# Altium footprint library ICs.PcbLib: 16 footprints
Each footprint in its own frame and in the unit in brackets; x right, y up, seen from the top. Pads: shape width x height; smd on the part's side, far side on the other; paste and mask are expansions set on the pad; w line width, h text height; cw(c..) or ccw(c..) is an arc to the next point about the centre after c.
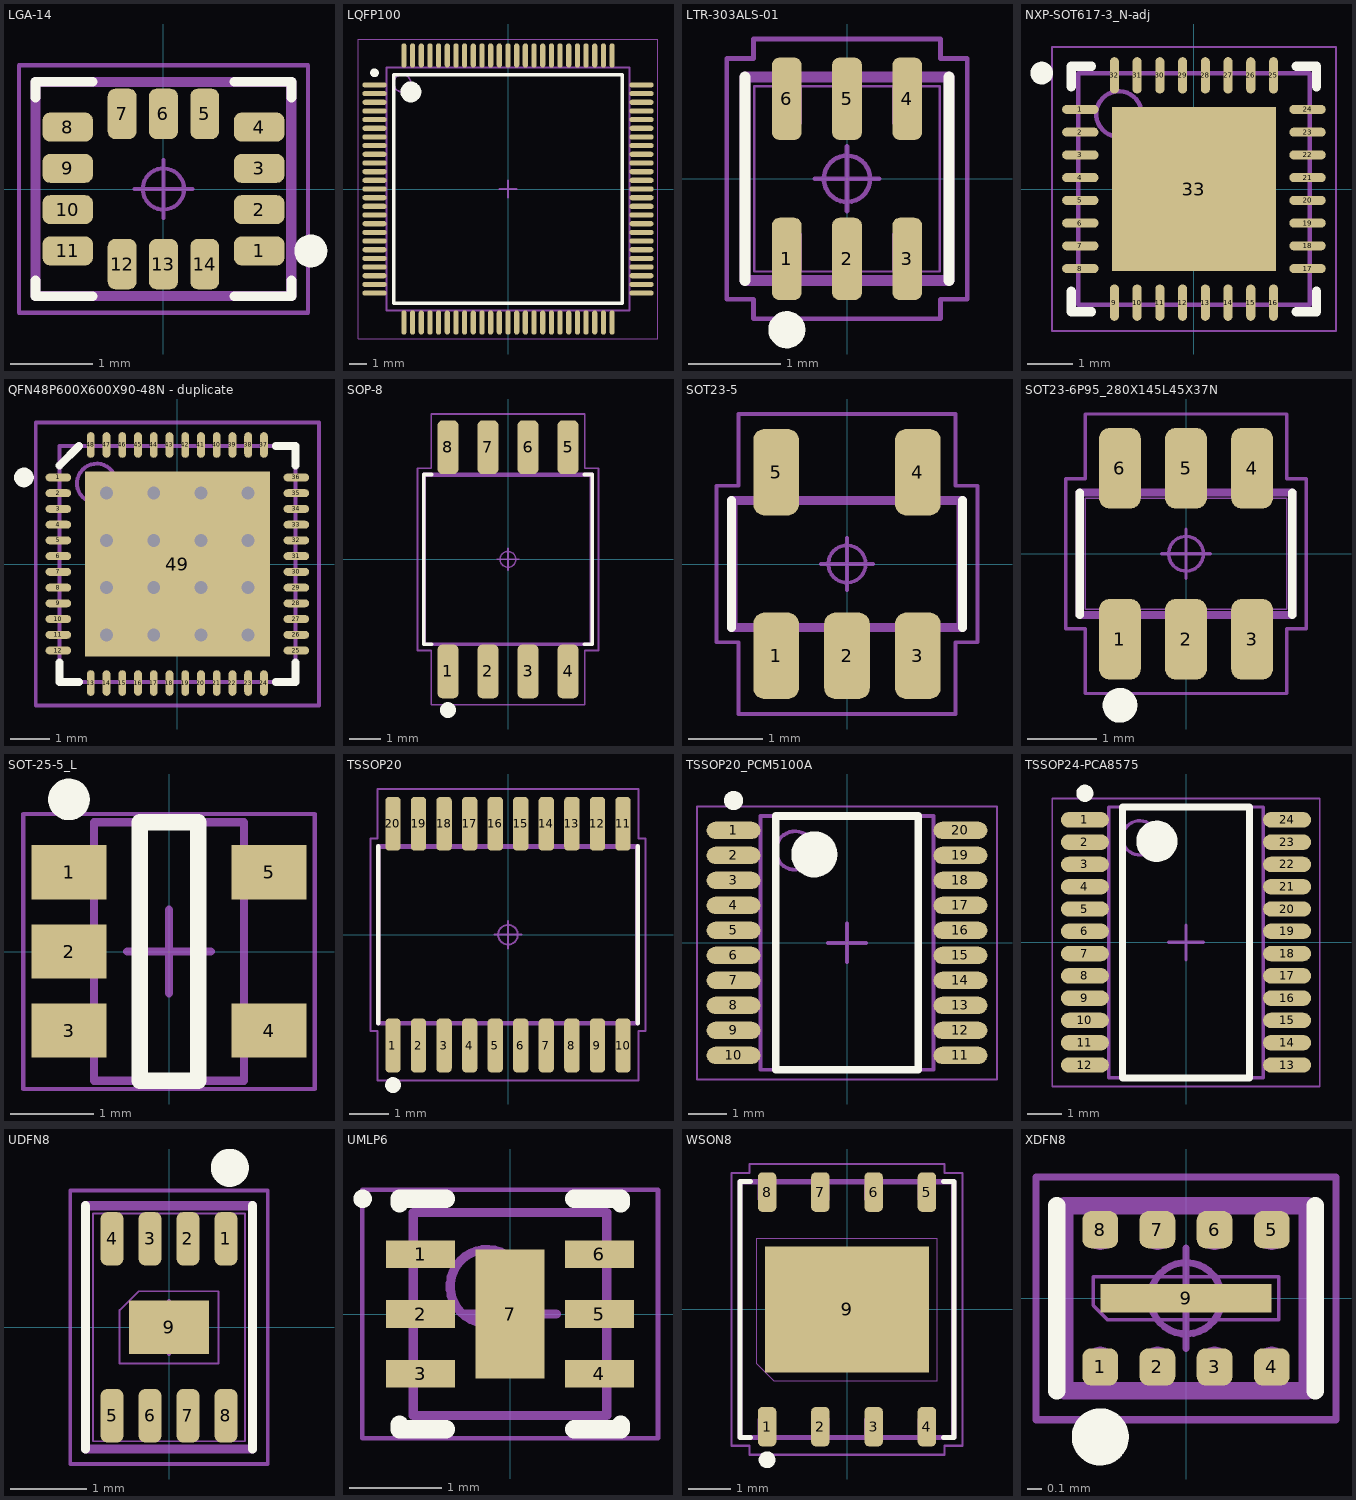
[diagram p0: the footprints below, top view; thin cyan lines are the x and y axes]

## LGA-14 [mm]
height 0.86
pads (14):
  rrect51% 0.61x0.35 smd: 1(1.16,-0.75) 2(1.16,-0.25) 3(1.16,0.25) 4(1.16,0.75) 8(-1.16,0.75) 9(-1.16,0.25) 10(-1.16,-0.25) 11(-1.16,-0.75)
  rrect51% 0.35x0.61 smd: 5(0.5,0.91) 6(0,0.91) 7(-0.5,0.91) 12(-0.5,-0.91) 13(0,-0.91) 14(0.5,-0.91)
Top Overlay:
  circle w0.2: c1.785,-0.75 r0.1
  lines w0.12: -1.55,-1.11 -1.55,-1.3 -0.86,-1.3 ; -1.55,1.11 -1.55,1.3 -0.86,1.3 ; 0.86,-1.3 1.55,-1.3 1.55,-1.11 ; 0.86,1.3 1.55,1.3 1.55,1.11
Assembly Top:
  lines w0.12: -1.55,-1.3 -1.55,1.3 1.55,1.3 1.55,-1.3 -1.55,-1.3
3D Top:
  lines w0.025: -1.5,-1.25 -1.5,1.25 1.5,1.25 1.5,-1.25 -1.5,-1.25 ; -1.4,-0.875 -0.95,-0.875 -0.95,-0.625 -1.4,-0.625 -1.4,-0.875 ; -1.4,-0.375 -0.95,-0.375 -0.95,-0.125 -1.4,-0.125 -1.4,-0.375 ; -1.4,0.125 -0.95,0.125 -0.95,0.375 -1.4,0.375 -1.4,0.125 ; -1.4,0.625 -0.95,0.625 -0.95,0.875 -1.4,0.875 -1.4,0.625 ; -0.625,-1.15 -0.375,-1.15 -0.375,-0.7 -0.625,-0.7 -0.625,-1.15 ; -0.625,0.7 -0.375,0.7 -0.375,1.15 -0.625,1.15 -0.625,0.7 ; -0.125,-1.15 0.125,-1.15 0.125,-0.7 -0.125,-0.7 -0.125,-1.15 ; -0.125,0.7 0.125,0.7 0.125,1.15 -0.125,1.15 -0.125,0.7 ; 0.375,-1.15 0.625,-1.15 0.625,-0.7 0.375,-0.7 0.375,-1.15 ; 0.375,0.7 0.625,0.7 0.625,1.15 0.375,1.15 0.375,0.7 ; 0.95,-0.875 0.95,-0.625 1.4,-0.625 1.4,-0.875 0.95,-0.875 ; 0.95,-0.375 0.95,-0.125 1.4,-0.125 1.4,-0.375 0.95,-0.375 ; 0.95,0.125 0.95,0.375 1.4,0.375 1.4,0.125 0.95,0.125 ; 0.95,0.625 0.95,0.875 1.4,0.875 1.4,0.625 0.95,0.625
Courtyard Top:
  circle w0.05: c0,0 r0.25
  lines w0.05: -0.35,0 0.35,0 ; 0,-0.35 0,0.35 ; -1.75,-1.5 -1.75,1.5 1.75,1.5 1.75,-1.5 -1.75,-1.5
3D body: height 0.86, standoff 0, extent -1.5,-1.25 1.5,1.25

## LQFP100 [mm] "Low profile quad flat package; 100 terminals; 0.5 mm pitch; 14 mm x 14 mm x 1.7 mm body"
height 1.7
pads (100):
  oval 1.4x0.3 smd: 1(-7.7,6) 2(-7.7,5.5) 3(-7.7,5) 4(-7.7,4.5) 5(-7.7,4) 6(-7.7,3.5) 7(-7.7,3) 8(-7.7,2.5) 9(-7.7,2) 10(-7.7,1.5) 11(-7.7,1) 12(-7.7,0.5) 13(-7.7,0) 14(-7.7,-0.5) 15(-7.7,-1) 16(-7.7,-1.5) 17(-7.7,-2) 18(-7.7,-2.5) 19(-7.7,-3) 20(-7.7,-3.5) 21(-7.7,-4) 22(-7.7,-4.5) 23(-7.7,-5) 24(-7.7,-5.5) 25(-7.7,-6) 51(7.7,-6) 52(7.7,-5.5) 53(7.7,-5) 54(7.7,-4.5) 55(7.7,-4) 56(7.7,-3.5) 57(7.7,-3) 58(7.7,-2.5) 59(7.7,-2) 60(7.7,-1.5) 61(7.7,-1) 62(7.7,-0.5) 63(7.7,0) 64(7.7,0.5) 65(7.7,1) 66(7.7,1.5) 67(7.7,2) 68(7.7,2.5) 69(7.7,3) 70(7.7,3.5) 71(7.7,4) 72(7.7,4.5) 73(7.7,5) 74(7.7,5.5) 75(7.7,6)
  oval 0.3x1.4 smd: 26(-6,-7.7) 27(-5.5,-7.7) 28(-5,-7.7) 29(-4.5,-7.7) 30(-4,-7.7) 31(-3.5,-7.7) 32(-3,-7.7) 33(-2.5,-7.7) 34(-2,-7.7) 35(-1.5,-7.7) 36(-1,-7.7) 37(-0.5,-7.7) 38(0,-7.7) 39(0.5,-7.7) 40(1,-7.7) 41(1.5,-7.7) 42(2,-7.7) 43(2.5,-7.7) 44(3,-7.7) 45(3.5,-7.7) 46(4,-7.7) 47(4.5,-7.7) 48(5,-7.7) 49(5.5,-7.7) 50(6,-7.7) 76(6,7.7) 77(5.5,7.7) 78(5,7.7) 79(4.5,7.7) 80(4,7.7) 81(3.5,7.7) 82(3,7.7) 83(2.5,7.7) 84(2,7.7) 85(1.5,7.7) 86(1,7.7) 87(0.5,7.7) 88(0,7.7) 89(-0.5,7.7) 90(-1,7.7) 91(-1.5,7.7) 92(-2,7.7) 93(-2.5,7.7) 94(-3,7.7) 95(-3.5,7.7) 96(-4,7.7) 97(-4.5,7.7) 98(-5,7.7) 99(-5.5,7.7) 100(-6,7.7)
Top Overlay:
  circle w0.6: c-5.6,5.6 r0.3
  circle w0.25: c-7.7,6.7 r0.125
  lines w0.2: -6.6,-6.6 6.6,-6.6 6.6,6.6 -6.6,6.6 -6.6,-6.6
3D Top:
  circle w0.1: c-6.1,6.1 r0.5
  lines w0.1: -7,-7 7,-7 7,7 -7,7 -7,-7
Courtyard Top:
  lines w0.05: -8.65,-8.65 8.65,-8.65 8.65,8.65 -8.65,8.65 -8.65,-8.65
  lines w0.1: -0.5,0 0.5,0 ; 0,-0.5 0,0.5
3D body: height 1.7, standoff 0, extent -8,-8 8,8

## LTR-303ALS-01 [mm]
height 0.9
pads (6):
  rrect50% 0.32x0.89 smd: 1(-0.65,-0.865) 2(0,-0.865) 3(0.65,-0.865) 4(0.65,0.865) 5(0,0.865) 6(-0.65,0.865)
Top Overlay:
  circle w0.2: c-0.65,-1.63 r0.1
  lines w0.12: -1.1,-1.1 -1.1,1.1 ; 1.1,-1.1 1.1,1.1
Assembly Top:
  lines w0.12: -1.1,-1.1 -1.1,1.1 1.1,1.1 1.1,-1.1 -1.1,-1.1
3D Top:
  lines w0.025: -1,-1 -1,1 1,1 1,-1 -1,-1 ; -0.8,-1 -0.5,-1 -0.5,-0.6 -0.8,-0.6 -0.8,-1 ; -0.8,0.6 -0.5,0.6 -0.5,1 -0.8,1 -0.8,0.6 ; -0.15,-1 0.15,-1 0.15,-0.6 -0.15,-0.6 -0.15,-1 ; -0.15,0.6 0.15,0.6 0.15,1 -0.15,1 -0.15,0.6 ; 0.5,-1 0.8,-1 0.8,-0.6 0.5,-0.6 0.5,-1 ; 0.5,0.6 0.8,0.6 0.8,1 0.5,1 0.5,0.6
Courtyard Top:
  circle w0.05: c0,0 r0.25
  lines w0.05: -0.35,0 0.35,0 ; 0,-0.35 0,0.35 ; -1.3,-1.3 -1.3,1.3 -1.01,1.3 -1.01,1.51 1.01,1.51 1.01,1.3 1.3,1.3 1.3,-1.3 1.01,-1.3 1.01,-1.51 -1.01,-1.51 -1.01,-1.3 -1.3,-1.3
3D body: height 0.9, standoff 0, extent -1,-1.05 1,1.05

## NXP-SOT617-3_N-adj [mm] "QFN, 32-Leads, Body 5x5mm, Pitch 0.5mm, Thermal Pad 3.6x3.6mm, IPC Medium Density"
height 0.85
pads (33):
  oval 0.8x0.2 smd: 1(-2.5,1.75) 2(-2.5,1.25) 3(-2.5,0.75) 4(-2.5,0.25) 5(-2.5,-0.25) 6(-2.5,-0.75) 7(-2.5,-1.25) 8(-2.5,-1.75) 17(2.5,-1.75) 18(2.5,-1.25) 19(2.5,-0.75) 20(2.5,-0.25) 21(2.5,0.25) 22(2.5,0.75) 23(2.5,1.25) 24(2.5,1.75)
  oval 0.2x0.8 smd: 9(-1.75,-2.5) 10(-1.25,-2.5) 11(-0.75,-2.5) 12(-0.25,-2.5) 13(0.25,-2.5) 14(0.75,-2.5) 15(1.25,-2.5) 16(1.75,-2.5) 25(1.75,2.5) 26(1.25,2.5) 27(0.75,2.5) 28(0.25,2.5) 29(-0.25,2.5) 30(-0.75,2.5) 31(-1.25,2.5) 32(-1.75,2.5)
  rect 3.6x3.6 smd: 33(0,0)
Top Overlay:
  circle w0.25: c-3.35,2.55 r0.125
  lines w0.2: -2.7,-2.25 -2.7,-2.7 -2.25,-2.7 ; -2.7,2.25 -2.7,2.7 -2.25,2.7 ; 2.25,-2.7 2.7,-2.7 2.7,-2.25 ; 2.25,2.7 2.7,2.7 2.7,2.25
3D Top:
  circle w0.1: c-1.65,1.65 r0.5
  lines w0.1: -2.55,-2.55 -2.55,2.55 2.55,2.55 2.55,-2.55 -2.55,-2.55
Courtyard Top:
  lines w0.05: -3.125,-3.125 -3.125,3.125 3.125,3.125 3.125,-3.125 -3.125,-3.125
  lines w0.1: -0.5,0 0.5,0 ; 0,-0.5 0,0.5
3D body: height 0.85, standoff 0, extent -2.55,-2.55 2.55,2.55

## QFN48P600X600X90-48N - duplicate [mm] "QFN, 48-Leads, Body 6,0x6,0mm (max), Pitch 0,40mm, IPC Medium Density"
height 0.9
pads (49):
  oval 0.65x0.2 smd: 1(-3.025,2.2) 2(-3.025,1.8) 3(-3.025,1.4) 4(-3.025,1) 5(-3.025,0.6) 6(-3.025,0.2) 7(-3.025,-0.2) 8(-3.025,-0.6) 9(-3.025,-1) 10(-3.025,-1.4) 11(-3.025,-1.8) 12(-3.025,-2.2) 25(3.025,-2.2) 26(3.025,-1.8) 27(3.025,-1.4) 28(3.025,-1) 29(3.025,-0.6) 30(3.025,-0.2) 31(3.025,0.2) 32(3.025,0.6) 33(3.025,1) 34(3.025,1.4) 35(3.025,1.8) 36(3.025,2.2)
  oval 0.2x0.65 smd: 13(-2.2,-3.025) 14(-1.8,-3.025) 15(-1.4,-3.025) 16(-1,-3.025) 17(-0.6,-3.025) 18(-0.2,-3.025) 19(0.2,-3.025) 20(0.6,-3.025) 21(1,-3.025) 22(1.4,-3.025) 23(1.8,-3.025) 24(2.2,-3.025) 37(2.2,3.025) 38(1.8,3.025) 39(1.4,3.025) 40(1,3.025) 41(0.6,3.025) 42(0.2,3.025) 43(-0.2,3.025) 44(-0.6,3.025) 45(-1,3.025) 46(-1.4,3.025) 47(-1.8,3.025) 48(-2.2,3.025)
  rect 4.7x4.7 smd: 49(0,0)
via 1.8,-1.8 diameter 0.66 hole 0.33
via 0.6,-1.8 diameter 0.66 hole 0.33
via -0.6,-1.8 diameter 0.66 hole 0.33
via -1.8,-1.8 diameter 0.66 hole 0.33
via 1.8,-0.6 diameter 0.66 hole 0.33
via 0.6,-0.6 diameter 0.66 hole 0.33
via -0.6,-0.6 diameter 0.66 hole 0.33
via -1.8,-0.6 diameter 0.66 hole 0.33
via 1.8,0.6 diameter 0.66 hole 0.33
via 0.6,0.6 diameter 0.66 hole 0.33
via -0.6,0.6 diameter 0.66 hole 0.33
via -1.8,0.6 diameter 0.66 hole 0.33
via 1.8,1.8 diameter 0.66 hole 0.33
via 0.6,1.8 diameter 0.66 hole 0.33
via -0.6,1.8 diameter 0.66 hole 0.33
via -1.8,1.8 diameter 0.66 hole 0.33
Top Overlay:
  circle w0.25: c-3.9,2.2 r0.125
  lines w0.2: -3,-2.5 -3,-3 -2.5,-3 ; -3,2.5 -2.5,3 ; 2.5,-3 3,-3 3,-2.5 ; 2.5,3 3,3 3,2.5
3D Top:
  circle w0.1: c-2.05,2.05 r0.5
  lines w0.1: -3,-3 3,-3 3,3 -3,3 -3,-3
Courtyard Top:
  lines w0.1: -0.5,0 0.5,0 ; 0,-0.5 0,0.5 ; -3.6,-3.6 3.6,-3.6 3.6,3.6 -3.6,3.6 -3.6,-3.6
3D body: height 0.86, standoff -0.01, extent -3.02,-3.02 3.02,3.02

## SOP-8 [mm]
height 2.16
pads (8):
  rrect51% 0.67x1.71 smd: 1(-1.905,-3.555) 2(-0.635,-3.555) 3(0.635,-3.555) 4(1.905,-3.555) 5(1.905,3.555) 6(0.635,3.555) 7(-0.635,3.555) 8(-1.905,3.555)
Top Overlay:
  circle w0.25: c-1.905,-4.78 r0.125
  lines w0.12: -2.42,-2.69 -2.67,-2.69 -2.67,2.69 -2.42,2.69 ; 2.42,-2.69 2.67,-2.69 2.67,2.69 2.42,2.69
Assembly Top:
  lines w0.12: -2.67,-2.69 2.67,-2.69 2.67,2.69 -2.67,2.69 -2.67,-2.69
3D Top:
  lines w0.025: -2.615,-2.64 2.615,-2.64 2.615,2.64 -2.615,2.64 -2.615,-2.64 ; -2.123,-3.95 -2.123,-3.3 -1.687,-3.3 -1.687,-3.95 -2.123,-3.95 ; -2.123,3.3 -2.123,3.95 -1.687,3.95 -1.687,3.3 -2.123,3.3 ; -0.853,-3.95 -0.853,-3.3 -0.417,-3.3 -0.417,-3.95 -0.853,-3.95 ; -0.853,3.3 -0.853,3.95 -0.417,3.95 -0.417,3.3 -0.853,3.3 ; 0.417,-3.95 0.417,-3.3 0.853,-3.3 0.853,-3.95 0.417,-3.95 ; 0.417,3.3 0.417,3.95 0.853,3.95 0.853,3.3 0.417,3.3 ; 1.687,-3.95 1.687,-3.3 2.123,-3.3 2.123,-3.95 1.687,-3.95 ; 1.687,3.3 1.687,3.95 2.123,3.95 2.123,3.3 1.687,3.3
Courtyard Top:
  circle w0.05: c0,0 r0.25
  lines w0.05: -0.35,0 0.35,0 ; 0,-0.35 0,0.35 ; -2.87,-2.89 -2.44,-2.89 -2.44,-4.61 2.44,-4.61 2.44,-2.89 2.87,-2.89 2.87,2.89 2.44,2.89 2.44,4.61 -2.44,4.61 -2.44,2.89 -2.87,2.89 -2.87,-2.89
3D body: height 2.16, standoff 0, extent -2.615,-3.95 2.615,3.95

## SOT23-5 [mm]
height 1.4
pads (5):
  rrect49% 0.61x1.16 smd: 1(-0.95,-1.23) 2(0,-1.23) 3(0.95,-1.23) 4(0.95,1.23) 5(-0.95,1.23)
Top Overlay:
  lines w0.12: -1.55,-0.85 -1.55,0.85 ; 1.55,-0.85 1.55,0.85
Assembly Top:
  lines w0.12: -1.55,-0.85 -1.55,0.85 1.55,0.85 1.55,-0.85 -1.55,-0.85
3D Top:
  lines w0.025: -1.48,-0.8 -1.48,0.8 1.48,0.8 1.48,-0.8 -1.48,-0.8 ; -1.15,-1.4 -0.75,-1.4 -0.75,-0.95 -1.15,-0.95 -1.15,-1.4 ; -1.15,0.95 -0.75,0.95 -0.75,1.4 -1.15,1.4 -1.15,0.95 ; -0.2,-1.4 0.2,-1.4 0.2,-0.95 -0.2,-0.95 -0.2,-1.4 ; 0.75,-1.4 1.15,-1.4 1.15,-0.95 0.75,-0.95 0.75,-1.4 ; 0.75,0.95 1.15,0.95 1.15,1.4 0.75,1.4 0.75,0.95
Courtyard Top:
  circle w0.05: c0,0 r0.25
  lines w0.05: -0.35,0 0.35,0 ; 0,-0.35 0,0.35 ; -1.75,-1.05 -1.75,1.05 -1.455,1.05 -1.455,2.01 1.455,2.01 1.455,1.05 1.75,1.05 1.75,-1.05 1.455,-1.05 1.455,-2.01 -1.455,-2.01 -1.455,-1.05 -1.75,-1.05
3D body: height 1.4, standoff 0, extent -1.48,-1.4 1.48,1.4

## SOT23-6P95_280X145L45X37N [mm]
height 1.45
pads (6):
  rrect50% 0.6x1.16 smd: 1(-0.95,-1.23) 2(0,-1.23) 3(0.95,-1.23) 4(0.95,1.23) 5(0,1.23) 6(-0.95,1.23)
Top Overlay:
  circle w0.25: c-0.95,-2.18 r0.125
  lines w0.12: -1.53,-0.88 -1.53,0.88 ; 1.53,-0.88 1.53,0.88
Assembly Top:
  lines w0.12: -1.53,-0.88 1.53,-0.88 1.53,0.88 -1.53,0.88 -1.53,-0.88
3D Top:
  lines w0.025: -1.45,-0.8 1.45,-0.8 1.45,0.8 -1.45,0.8 -1.45,-0.8 ; -1.138,-1.4 -1.138,-0.95 -0.763,-0.95 -0.763,-1.4 -1.138,-1.4 ; -1.138,0.95 -1.138,1.4 -0.763,1.4 -0.763,0.95 -1.138,0.95 ; -0.188,-1.4 -0.188,-0.95 0.188,-0.95 0.188,-1.4 -0.188,-1.4 ; -0.188,0.95 -0.188,1.4 0.188,1.4 0.188,0.95 -0.188,0.95 ; 0.763,-1.4 0.763,-0.95 1.138,-0.95 1.138,-1.4 0.763,-1.4 ; 0.763,0.95 0.763,1.4 1.138,1.4 1.138,0.95 0.763,0.95
Courtyard Top:
  circle w0.05: c0,0 r0.25
  lines w0.05: -0.35,0 0.35,0 ; 0,-0.35 0,0.35 ; -1.73,-1.08 -1.45,-1.08 -1.45,-2.01 1.45,-2.01 1.45,-1.08 1.73,-1.08 1.73,1.08 1.45,1.08 1.45,2.01 -1.45,2.01 -1.45,1.08 -1.73,1.08 -1.73,-1.08
3D body: height 1.45, standoff 0, extent -1.45,-1.4 1.45,1.4

## SOT-25-5_L [mm] "SOT23, 5-Leads, Body 3.1x1.8mm, Pitch 0.95mm, IPC High Density"
height 1.3
pads (5):
  rect 0.9x0.65 smd: 1(-1.2,0.95) 2(-1.2,0) 3(-1.2,-0.95) 4(1.2,-0.95) 5(1.2,0.95)
Top Overlay:
  circle w0.25: c-1.2,1.825 r0.125
  lines w0.2: -0.35,-1.55 0.35,-1.55 0.35,1.55 -0.35,1.55 -0.35,-1.55
3D Top:
  lines w0.1: -0.9,-1.55 -0.9,1.55 0.9,1.55 0.9,-1.55 -0.9,-1.55
Courtyard Top:
  lines w0.05: -1.75,-1.65 -1.75,1.65 1.75,1.65 1.75,-1.65 -1.75,-1.65
  lines w0.1: -0.5,0 0.5,0 ; 0,-0.5 0,0.5
3D body: height 1.3, standoff 0, extent -0.9,-1.55 0.9,1.55

## TSSOP20 [mm]
height 1.1
pads (20):
  rrect51% 0.39x1.37 smd: 1(-2.925,-2.82) 2(-2.275,-2.82) 3(-1.625,-2.82) 4(-0.975,-2.82) 5(-0.325,-2.82) 6(0.325,-2.82) 7(0.975,-2.82) 8(1.625,-2.82) 9(2.275,-2.82) 10(2.925,-2.82) 11(2.925,2.82) 12(2.275,2.82) 13(1.625,2.82) 14(0.975,2.82) 15(0.325,2.82) 16(-0.325,2.82) 17(-0.975,2.82) 18(-1.625,2.82) 19(-2.275,2.82) 20(-2.925,2.82)
Top Overlay:
  circle w0.2: c-2.925,-3.825 r0.1
  lines w0.12: -3.3,-2.25 -3.3,2.25 ; 3.3,-2.25 3.3,2.25
Assembly Top:
  lines w0.12: -3.3,-2.25 3.3,-2.25 3.3,2.25 -3.3,2.25 -3.3,-2.25
3D Top:
  lines w0.025: -3.25,-2.2 3.25,-2.2 3.25,2.2 -3.25,2.2 -3.25,-2.2 ; -3.047,-3.2 -3.047,-2.575 -2.802,-2.575 -2.802,-3.2 -3.047,-3.2 ; -3.047,2.575 -3.047,3.2 -2.802,3.2 -2.802,2.575 -3.047,2.575 ; -2.398,-3.2 -2.398,-2.575 -2.153,-2.575 -2.153,-3.2 -2.398,-3.2 ; -2.398,2.575 -2.398,3.2 -2.153,3.2 -2.153,2.575 -2.398,2.575 ; -1.747,-3.2 -1.747,-2.575 -1.502,-2.575 -1.502,-3.2 -1.747,-3.2 ; -1.747,2.575 -1.747,3.2 -1.502,3.2 -1.502,2.575 -1.747,2.575 ; -1.098,-3.2 -1.098,-2.575 -0.853,-2.575 -0.853,-3.2 -1.098,-3.2 ; -1.098,2.575 -1.098,3.2 -0.853,3.2 -0.853,2.575 -1.098,2.575 ; -0.447,-3.2 -0.447,-2.575 -0.202,-2.575 -0.202,-3.2 -0.447,-3.2 ; -0.447,2.575 -0.447,3.2 -0.202,3.2 -0.202,2.575 -0.447,2.575 ; 0.202,-3.2 0.202,-2.575 0.447,-2.575 0.447,-3.2 0.202,-3.2 ; 0.202,2.575 0.202,3.2 0.447,3.2 0.447,2.575 0.202,2.575 ; 0.853,-3.2 0.853,-2.575 1.098,-2.575 1.098,-3.2 0.853,-3.2 ; 0.853,2.575 0.853,3.2 1.098,3.2 1.098,2.575 0.853,2.575 ; 1.502,-3.2 1.502,-2.575 1.747,-2.575 1.747,-3.2 1.502,-3.2 ; 1.502,2.575 1.502,3.2 1.747,3.2 1.747,2.575 1.502,2.575 ; 2.153,-3.2 2.153,-2.575 2.398,-2.575 2.398,-3.2 2.153,-3.2 ; 2.153,2.575 2.153,3.2 2.398,3.2 2.398,2.575 2.153,2.575 ; 2.802,-3.2 2.802,-2.575 3.047,-2.575 3.047,-3.2 2.802,-3.2 ; 2.802,2.575 2.802,3.2 3.047,3.2 3.047,2.575 2.802,2.575
Courtyard Top:
  circle w0.05: c0,0 r0.25
  lines w0.05: -0.35,0 0.35,0 ; 0,-0.35 0,0.35 ; -3.5,-2.45 -3.32,-2.45 -3.32,-3.705 3.32,-3.705 3.32,-2.45 3.5,-2.45 3.5,2.45 3.32,2.45 3.32,3.705 -3.32,3.705 -3.32,2.45 -3.5,2.45 -3.5,-2.45
3D body: height 1.1, standoff 0, extent -3.25,-3.2 3.25,3.2

## TSSOP20_PCM5100A [mm] "TSOP, 20-Leads, Body 6.50x4.40mm, Pitch 0.65mm, IPC Medium Density"
height 1.2
pads (20):
  oval 1.4x0.45 smd: 1(-2.95,2.925) 2(-2.95,2.275) 3(-2.95,1.625) 4(-2.95,0.975) 5(-2.95,0.325) 6(-2.95,-0.325) 7(-2.95,-0.975) 8(-2.95,-1.625) 9(-2.95,-2.275) 10(-2.95,-2.925) 11(2.95,-2.925) 12(2.95,-2.275) 13(2.95,-1.625) 14(2.95,-0.975) 15(2.95,-0.325) 16(2.95,0.325) 17(2.95,0.975) 18(2.95,1.625) 19(2.95,2.275) 20(2.95,2.925)
Top Overlay:
  circle w0.6: c-0.85,2.3 r0.3
  circle w0.25: c-2.95,3.7 r0.125
  lines w0.2: -1.85,-3.3 1.85,-3.3 1.85,3.3 -1.85,3.3 -1.85,-3.3
3D Top:
  circle w0.1: c-1.35,2.4 r0.5
  lines w0.1: -2.25,-3.3 2.25,-3.3 2.25,3.3 -2.25,3.3 -2.25,-3.3
Courtyard Top:
  lines w0.05: -3.9,-3.55 3.9,-3.55 3.9,3.55 -3.9,3.55 -3.9,-3.55
  lines w0.1: -0.5,0 0.5,0 ; 0,-0.5 0,0.5
3D body: height 1.2, standoff 0, extent -3.2,-3.3 3.2,3.3

## TSSOP24-PCA8575 [mm] "TSOP, 24-Leads, Body 7.80x4.40mm, Pitch 0.65mm, IPC Medium Density"
height 1.1
pads (24):
  oval 1.4x0.45 smd: 1(-2.95,3.575) 2(-2.95,2.925) 3(-2.95,2.275) 4(-2.95,1.625) 5(-2.95,0.975) 6(-2.95,0.325) 7(-2.95,-0.325) 8(-2.95,-0.975) 9(-2.95,-1.625) 10(-2.95,-2.275) 11(-2.95,-2.925) 12(-2.95,-3.575) 13(2.95,-3.575) 14(2.95,-2.925) 15(2.95,-2.275) 16(2.95,-1.625) 17(2.95,-0.975) 18(2.95,-0.325) 19(2.95,0.325) 20(2.95,0.975) 21(2.95,1.625) 22(2.95,2.275) 23(2.95,2.925) 24(2.95,3.575)
Top Overlay:
  circle w0.25: c-2.95,4.35 r0.125
  circle w0.6: c-0.85,2.95 r0.3
  lines w0.2: -1.85,-3.95 -1.85,3.95 1.85,3.95 1.85,-3.95 -1.85,-3.95
3D Top:
  circle w0.1: c-1.35,3.05 r0.5
  lines w0.1: -2.25,-3.95 -2.25,3.95 2.25,3.95 2.25,-3.95 -2.25,-3.95
Courtyard Top:
  lines w0.05: -3.9,-4.2 -3.9,4.2 3.9,4.2 3.9,-4.2 -3.9,-4.2
  lines w0.1: -0.5,0 0.5,0 ; 0,-0.5 0,0.5
3D body: height 1.1, standoff 0, extent -3.2,-3.95 3.2,3.95

## UDFN8 [mm] "UDFN8"
height 0.65
pads (9):
  rrect53% 0.3x0.7 smd: 1(0.75,1.165) 2(0.25,1.165) 3(-0.25,1.165) 4(-0.75,1.165) 5(-0.75,-1.165) 6(-0.25,-1.165) 7(0.25,-1.165) 8(0.75,-1.165)
  rect 1.05x0.7 smd: 9(0,0)
Top Overlay:
  circle w0.4: c0.8,2.1 r0.05
  lines w0.12: -1.1,-1.6 -1.1,1.6 ; 1.1,-1.6 1.1,1.6
Assembly Top:
  lines w0.12: -1.1,-1.6 -1.1,1.6 1.1,1.6 1.1,-1.6 -1.1,-1.6
3D Top:
  lines w0.025: -1,-1.5 -1,1.5 1,1.5 1,-1.5 -1,-1.5 ; -0.87,-1.45 -0.87,-0.9 -0.63,-0.9 -0.63,-1.45 -0.87,-1.45 ; -0.87,0.9 -0.87,1.45 -0.63,1.45 -0.63,0.9 -0.87,0.9 ; -0.65,-0.475 0.65,-0.475 0.65,0.475 -0.4,0.475 -0.65,0.225 -0.65,-0.475 ; -0.37,-1.45 -0.37,-0.9 -0.13,-0.9 -0.13,-1.45 -0.37,-1.45 ; -0.37,0.9 -0.37,1.45 -0.13,1.45 -0.13,0.9 -0.37,0.9 ; 0.13,-1.45 0.13,-0.9 0.37,-0.9 0.37,-1.45 0.13,-1.45 ; 0.13,0.9 0.13,1.45 0.37,1.45 0.37,0.9 0.13,0.9 ; 0.63,-1.45 0.63,-0.9 0.87,-0.9 0.87,-1.45 0.63,-1.45 ; 0.63,0.9 0.63,1.45 0.87,1.45 0.87,0.9 0.63,0.9
Courtyard Top:
  circle w0.05: c0,0 r0.25
  lines w0.05: -0.35,0 0.35,0 ; 0,-0.35 0,0.35 ; -1.3,-1.8 -1.3,1.8 1.3,1.8 1.3,-1.8 -1.3,-1.8
3D body: height 0.65, standoff 0, extent -1,-1.5 1,1.5

## UMLP6 [mm] "SON, 6-Leads, Body 2,05x2,00mm, Pitch 0,65mm, Thermal Pad 1,40x0,75mm, IPC Medium Density"
height 0.55
pads (7):
  rect 0.75x0.3 smd: 1(-0.97,0.65) 2(-0.97,0) 3(-0.97,-0.65) 4(0.97,-0.65) 5(0.97,0) 6(0.97,0.65)
  rect 0.75x1.4 smd: 7(0,0)
Top Overlay:
  circle w0.1: c-1.6,1.25 r0.05
  lines w0.2: -1.2,-1.2 -1.2,-1.25 -0.695,-1.25 ; -1.2,1.2 -1.2,1.25 -0.695,1.25 ; 0.695,-1.25 1.2,-1.25 1.2,-1.2 ; 0.695,1.25 1.2,1.25 1.2,1.2
3D Top:
  circle w0.1: c-0.25,0.3 r0.4
  lines w0.1: -1.05,-1.1 1.05,-1.1 1.05,1.1 -1.05,1.1 -1.05,-1.1
Courtyard Top:
  lines w0.05: -1.605,-1.35 1.605,-1.35 1.605,1.35 -1.605,1.35 -1.605,-1.35
  lines w0.1: -0.5,0 0.5,0 ; 0,-0.5 0,0.5
3D body "UMLP-6.step": height 0.55, standoff 0, extent -1.05,-1.1 1.05,1.1

## WSON8 [mm]
height 0.8
pads (9):
  rrect50% 0.44x0.94 smd: 1(-1.905,-2.795) 2(-0.635,-2.795) 3(0.635,-2.795) 4(1.905,-2.795) 5(1.905,2.795) 6(0.635,2.795) 7(-0.635,2.795) 8(-1.905,2.795)
  rect 3.9x3 smd: 9(0,0)
Top Overlay:
  circle w0.2: c-1.905,-3.585 r0.1
  lines w0.12: -2.305,-3.05 -2.55,-3.05 -2.55,3.05 -2.305,3.05 ; 2.305,-3.05 2.55,-3.05 2.55,3.05 2.305,3.05
Assembly Top:
  lines w0.12: -2.55,-3.05 2.55,-3.05 2.55,3.05 -2.55,3.05 -2.55,-3.05
3D Top:
  lines w0.025: -2.5,-3 2.5,-3 2.5,3 -2.5,3 -2.5,-3 ; -2.15,-1.3 -1.75,-1.7 2.15,-1.7 2.15,1.7 -2.15,1.7 -2.15,-1.3 ; -2.113,-3 -1.697,-3 -1.697,-2.608 ccw(c-1.905,-2.608) -2.113,-2.608 -2.113,-3 ; -2.113,2.608 ccw(c-1.905,2.608) -1.697,2.608 -1.697,3 -2.113,3 -2.113,2.608 ; -0.843,-3 -0.427,-3 -0.427,-2.608 ccw(c-0.635,-2.608) -0.843,-2.608 -0.843,-3 ; -0.843,2.608 ccw(c-0.635,2.608) -0.427,2.608 -0.427,3 -0.843,3 -0.843,2.608 ; 0.427,-3 0.843,-3 0.843,-2.608 ccw(c0.635,-2.608) 0.427,-2.608 0.427,-3 ; 0.427,2.608 ccw(c0.635,2.608) 0.843,2.608 0.843,3 0.427,3 0.427,2.608 ; 1.697,-3 2.113,-3 2.113,-2.608 ccw(c1.905,-2.608) 1.697,-2.608 1.697,-3 ; 1.697,2.608 ccw(c1.905,2.608) 2.113,2.608 2.113,3 1.697,3 1.697,2.608
Courtyard Top:
  circle w0.05: c0,0 r0.25
  lines w0.05: -0.35,0 0.35,0 ; 0,-0.35 0,0.35 ; -2.75,-3.25 -2.325,-3.25 -2.325,-3.465 2.325,-3.465 2.325,-3.25 2.75,-3.25 2.75,3.25 2.325,3.25 2.325,3.465 -2.325,3.465 -2.325,3.25 -2.75,3.25 -2.75,-3.25
3D body: height 0.8, standoff 0, extent -2.5,-3.05 2.5,3.05

## XDFN8 [mm]
height 0.45
pads (9):
  rrect48% 0.25x0.26 smd: 1(-0.6,-0.48) 2(-0.2,-0.48) 3(0.2,-0.48) 4(0.6,-0.48) 5(0.6,0.48) 6(0.2,0.48) 7(-0.2,0.48) 8(-0.6,0.48)
  rect 1.2x0.2 smd: 9(0,0)
Top Overlay:
  circle w0.2: c-0.6,-0.97 r0.1
  lines w0.12: -0.905,-0.65 -0.905,0.65 ; 0.905,-0.65 0.905,0.65
Assembly Top:
  lines w0.12: -0.85,-0.65 -0.85,0.65 0.85,0.65 0.85,-0.65 -0.85,-0.65
3D Top:
  lines w0.025: -0.8,-0.6 -0.8,0.6 0.8,0.6 0.8,-0.6 -0.8,-0.6 ; -0.69,-0.55 -0.69,-0.44 cw(c-0.6,-0.44) -0.51,-0.44 -0.51,-0.55 -0.69,-0.55 ; -0.69,0.44 ccw(c-0.6,0.44) -0.51,0.44 -0.51,0.55 -0.69,0.55 -0.69,0.44 ; -0.65,-0.05 -0.65,0.15 0.65,0.15 0.65,-0.15 -0.55,-0.15 -0.65,-0.05 ; -0.29,-0.55 -0.29,-0.44 cw(c-0.2,-0.44) -0.11,-0.44 -0.11,-0.55 -0.29,-0.55 ; -0.29,0.44 ccw(c-0.2,0.44) -0.11,0.44 -0.11,0.55 -0.29,0.55 -0.29,0.44 ; 0.11,-0.55 0.11,-0.44 cw(c0.2,-0.44) 0.29,-0.44 0.29,-0.55 0.11,-0.55 ; 0.11,0.44 ccw(c0.2,0.44) 0.29,0.44 0.29,0.55 0.11,0.55 0.11,0.44 ; 0.51,-0.55 0.51,-0.44 cw(c0.6,-0.44) 0.69,-0.44 0.69,-0.55 0.51,-0.55 ; 0.51,0.44 ccw(c0.6,0.44) 0.69,0.44 0.69,0.55 0.51,0.55 0.51,0.44
Courtyard Top:
  circle w0.05: c0,0 r0.25
  lines w0.05: -0.35,0 0.35,0 ; 0,-0.35 0,0.35 ; -1.05,-0.85 -1.05,0.85 1.05,0.85 1.05,-0.85 -1.05,-0.85
3D body: height 0.45, standoff 0, extent -0.8,-0.6 0.8,0.6